# Altium schematic symbol library 8SMD.SchLib: 1 symbol
Pins are listed as number, name and electrical type; pins without a type are passive.

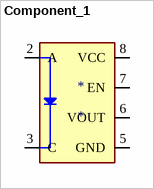
[diagram p0: symbol Component_1]

## Component_1
designator *
footprint COUPL_6N138SDM
pins: 2 A (io), 3 C (io), 5 GND (io), 6 VOUT (io), 7 EN (io), 8 VCC (io)